# Altium schematic symbol library Microchip_MCP73831T_2ACI_OT.SchLib: 1 symbol
Pins are listed as number, name and electrical type; pins without a type are passive.

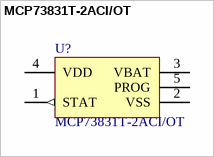
[diagram p0: symbol MCP73831T-2ACI/OT]

## MCP73831T-2ACI/OT
designator U?
Miniature Single-Cell, Fully Integrated Li-Ion, Li-Polymer Charge Management Controller, 4.2V, 5-Pin SOT-23, Industrial Temperature, Tape and Reel; PackageDescription: 5-Lead Plastic Small Outline Transistor (OT) [SOT-23]; PackageVersion: revBB, Aug-2009; PackageReference: SOT-23-OT5; Code_IPC: SOT23-5; HelpURL: https://www.digikey.com/product-detail/en/microchip-technology/MCP73831T-2ACI-OT/MCP73831T-2ACI-OTCT-ND/1979802; Model: MCP73831T-2ACI/OT
footprint SOT-23-OT5_L (SOT23, 5-Leads, Body 2.9x1.7mm, Pitch 0.95mm, Lead Span 2.8mm, IPC High Density)
pins: 1 STAT (out), 2 VSS (power), 3 VBAT (power), 4 VDD (power), 5 PROG